# Altium footprint library ZCTX-31main190715.PcbLib: 29 footprints (part 1 of 2)
Each footprint in its own frame and in the unit in brackets; x right, y up, seen from the top. Pads: shape width x height; smd on the part's side, far side on the other; paste and mask are expansions set on the pad; w line width, h text height; cw(c..) or ccw(c..) is an arc to the next point about the centre after c.
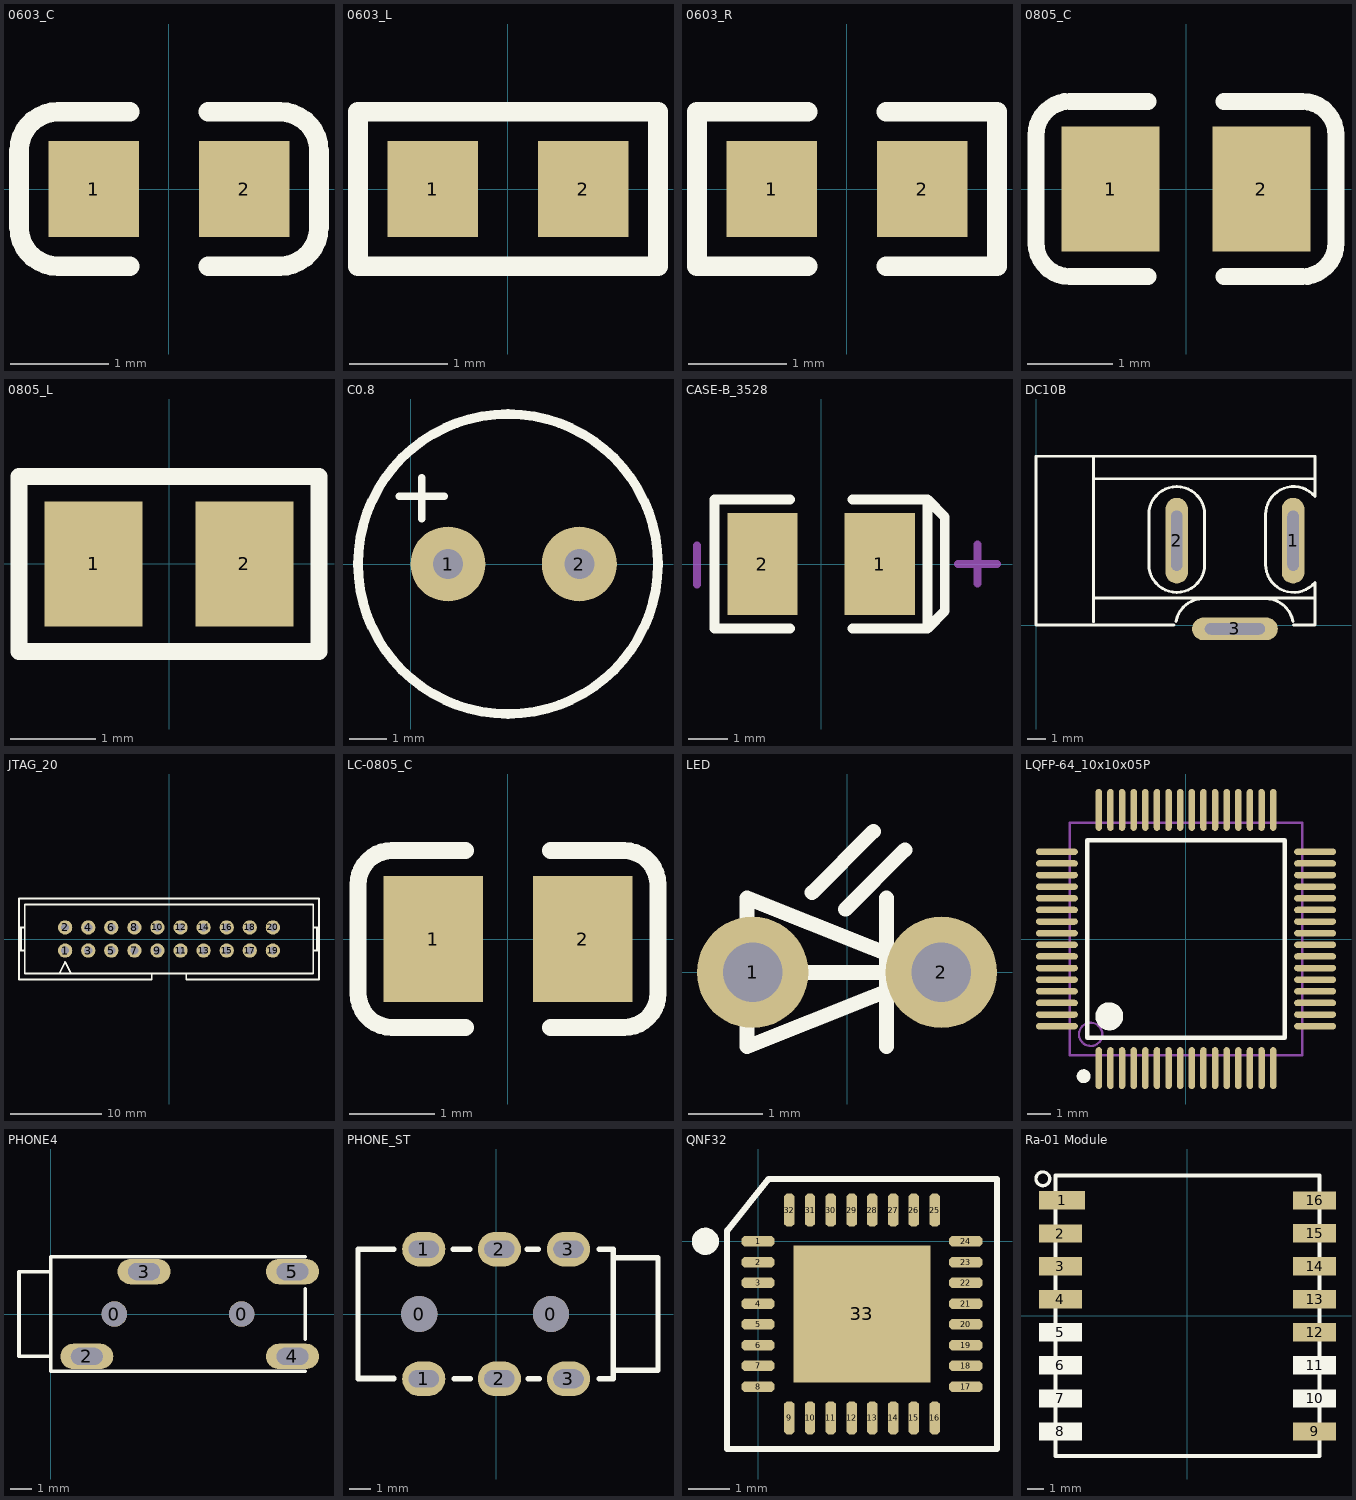
[diagram p0: the footprints below, top view; thin cyan lines are the x and y axes]

## 0603_C [mm]
pads (2):
  rect 0.93x0.98 smd: 1(-0.77,0) 2(0.77,0)
Top Overlay:
  lines w0.2: -0.4,-0.79 -1.135,-0.79 cw(c-1.135,-0.39) -1.535,-0.39 -1.535,0.39 cw(c-1.135,0.39) -1.135,0.79 -0.4,0.79 ; 0.4,-0.79 1.135,-0.79 ccw(c1.135,-0.39) 1.535,-0.39 1.535,0.39 ccw(c1.135,0.39) 1.135,0.79 0.4,0.79
3D body: height 0.3, standoff 0, extent -0.8,-0.4 0.8,0.4

## 0603_L [mm]
pads (2):
  rect 0.93x0.98 smd: 1(-0.77,0) 2(0.77,0)
Top Overlay:
  lines w0.2: -1.535,-0.79 -1.535,0.79 1.535,0.79 1.535,-0.79 -1.535,-0.79
3D body: height 0.46, standoff -0.01, extent -0.824,-0.412 0.824,0.413

## 0603_R [mm]
pads (2):
  rect 0.93x0.98 smd: 1(-0.77,0) 2(0.77,0)
Top Overlay:
  lines w0.2: -0.4,-0.79 -1.535,-0.79 -1.535,0.79 -0.4,0.79 ; 0.4,-0.79 1.535,-0.79 1.535,0.79 0.4,0.79
3D body: height 0.56, standoff 0, extent -0.85,-0.4 0.85,0.4

## 0805_C [mm]
pads (2):
  rect 1.16x1.47 smd: 1(-0.89,0) 2(0.89,0)
Top Overlay:
  lines w0.2: -0.45,-1.035 -1.37,-1.035 cw(c-1.37,-0.635) -1.77,-0.635 -1.77,0.635 cw(c-1.37,0.635) -1.37,1.035 -0.45,1.035 ; 0.45,-1.035 1.37,-1.035 ccw(c1.37,-0.635) 1.77,-0.635 1.77,0.635 ccw(c1.37,0.635) 1.37,1.035 0.45,1.035
3D body: height 0.77, standoff -0.01, extent -1,-0.625 1.001,0.625

## 0805_L [mm]
pads (2):
  rect 1.16x1.47 smd: 1(-0.89,0) 2(0.89,0)
Top Overlay:
  lines w0.2: -1.77,-1.035 -1.77,1.035 1.77,1.035 1.77,-1.035 -1.77,-1.035
3D body: height 0.6, standoff -0.02, extent -0.998,-0.638 1.005,0.637

## C0.8 [mm]
pads (2):
  round 2 hole 0.8: 1(1,0) 2(4.5,0)
Top Overlay:
  circle w0.254: c2.6,0 r4
  lines w0.2: -0.3,1.8 0.9,1.8 ; 0.3,1.2 0.3,2.3

## CASE-B_3528 [mm]
pads (2):
  rect 1.8x2.6 smd: 1(1.5,0) 2(-1.5,0)
Top Overlay:
  lines w0.254: -0.8,-1.65 -2.727,-1.65 -2.727,1.65 -0.8,1.65 ; 0.8,-1.65 2.727,-1.65 ; 0.8,1.65 2.727,1.65 ; 2.727,-1.65 2.727,1.65 ; 2.727,-1.65 3.163,-1.2 3.163,1.2 2.727,1.65
Mechanical 15:
  lines w0.203: -3.175,-0.525 -3.175,0.475 ; 3.5,0 4.5,0 ; 4,-0.5 4,0.5
3D body: height 2.03, standoff 0, extent -1.85,-1.465 1.85,1.465

## DC10B [mm]
pads (3):
  oval 1.2x4.572 hole 0.6 slot 3.2 at 90 deg: 1(13.7,4.5) 2(7.5,4.5)
  oval 4.572x1.2 hole 0.6 slot 3.2 at 0 deg: 3(10.6,-0.2)
Top Overlay:
  lines w0.152: 3.055,0.182 3.055,9 ; 3.055,1.452 14.866,1.452 ; 3.055,7.802 14.742,7.802 14.847,7.802 ; 7.348,0 3.055,0 0,0 0,9 14.866,9 14.862,6.852 ccw(c13.723,5.897) 12.237,5.897 12.236,3.23 ccw(c13.723,3.23) 14.862,2.275 ; 7.458,0.186 cw(c8.922,-0.072) 8.922,1.414 12.224,1.414 cw(c12.224,-0.072) 13.688,0.186 ; 13.723,0 14.866,0 14.866,2.214 ; 8.986,5.897 ccw(c7.5,5.897) 6.014,5.897 6.013,3.23 ccw(c7.5,3.23) 8.986,3.23 8.986,5.897 ; 8.986,5.897 8.987,5.897

## JTAG_20 [mil]
pads (20):
  round 62 hole 35: 1(-450,-50) 2(-450,50) 3(-350,-50) 4(-350,50) 5(-250,-50) 6(-250,50) 7(-150,-50) 8(-150,50) 9(-50,-50) 10(-50,50) 11(50,-50) 12(50,50) 13(150,-50) 14(150,50) 15(250,-50) 16(250,50) 17(350,-50) 18(350,50) 19(450,-50) 20(450,50)
Top Overlay:
  lines w8: -650,-50 -625,-50 ; -650,50 -625,50 ; -641.67,-50 -641.67,50 ; -475,-150 -450,-100 -425,-150 ; -339.57,-175 -75,-175 -75,-150 ; -325,-175 -650,-175 -650,175 650,175 650,-175 325,-175 75,-175 75,-150 ; 625,-50 650,-50 ; 625,50 650,50 ; 641.67,-50 641.67,50 ; -75,-150 -625,-150 -625,150 625,150 625,-150 75,-150 ; -75,-150 75,-150

## LC-0805_C [mm]
pads (2):
  rect 1.16x1.47 smd: 1(-0.875,0) 2(0.875,0)
Top Overlay:
  lines w0.2: -0.5,-1.035 -1.355,-1.035 cw(c-1.355,-0.635) -1.755,-0.635 -1.755,0.635 cw(c-1.355,0.635) -1.355,1.035 -0.5,1.035 ; 0.5,-1.035 1.355,-1.035 ccw(c1.355,-0.635) 1.755,-0.635 1.755,0.635 ccw(c1.355,0.635) 1.355,1.035 0.5,1.035
3D body: height 0.77, standoff -0.01, extent -1,-0.625 1.001,0.625

## LED [mm]
pads (2):
  round 1.5 hole 0.8: 1(-1.27,0) 2(1.27,0)
Top Overlay:
  lines w0.2: -1.878,0 1.713,0 ; -1.345,0 1.23,0 ; -0.47,1.075 0.355,1.9 ; -0.02,0.85 0.78,1.65 ; 0.53,-1 0.53,1 ; 1.713,0 1.205,-0.016 -1.345,1 -1.345,-1 1.205,0.016 1.713,0

## LQFP-64_10x10x05P [mm]
pads (64):
  oval 0.28x1.8 smd mask+0.051: 1(-3.75,-5.55) 2(-3.25,-5.55) 3(-2.75,-5.55) 4(-2.25,-5.55) 5(-1.75,-5.55) 6(-1.25,-5.55) 7(-0.75,-5.55) 8(-0.25,-5.55) 9(0.25,-5.55) 10(0.75,-5.55) 11(1.25,-5.55) 12(1.75,-5.55) 13(2.25,-5.55) 14(2.75,-5.55) 15(3.25,-5.55) 16(3.75,-5.55) 33(3.75,5.55) 34(3.25,5.55) 35(2.75,5.55) 36(2.25,5.55) 37(1.75,5.55) 38(1.25,5.55) 39(0.75,5.55) 40(0.25,5.55) 41(-0.25,5.55) 42(-0.75,5.55) 43(-1.25,5.55) 44(-1.75,5.55) 45(-2.25,5.55) 46(-2.75,5.55) 47(-3.25,5.55) 48(-3.75,5.55)
  oval 1.8x0.28 smd mask+0.051: 17(5.55,-3.75) 18(5.55,-3.25) 19(5.55,-2.75) 20(5.55,-2.25) 21(5.55,-1.75) 22(5.55,-1.25) 23(5.55,-0.75) 24(5.55,-0.25) 25(5.55,0.25) 26(5.55,0.75) 27(5.55,1.25) 28(5.55,1.75) 29(5.55,2.25) 30(5.55,2.75) 31(5.55,3.25) 32(5.55,3.75) 49(-5.55,3.75) 50(-5.55,3.25) 51(-5.55,2.75) 52(-5.55,2.25) 53(-5.55,1.75) 54(-5.55,1.25) 55(-5.55,0.75) 56(-5.55,0.25) 57(-5.55,-0.25) 58(-5.55,-0.75) 59(-5.55,-1.25) 60(-5.55,-1.75) 61(-5.55,-2.25) 62(-5.55,-2.75) 63(-5.55,-3.25) 64(-5.55,-3.75)
Top Overlay:
  circle w0.6: c-3.3,-3.325 r0.3
  circle w0.3: c-4.4,-5.9 r0.15
  lines w0.2: -4.25,-4.25 -4.25,4.25 4.25,4.25 4.25,-4.25 -4.25,-4.25
Mechanical 13:
  circle w0.1: c-4.1,-4.1 r0.5
  lines w0.1: -5,-5 -5,5 5,5 5,-5 -5,-5

## PHONE4 [mm]
pads (6):
  round 1.2 hole 1.2: 0(3,0) 0(9,0)
  oval 2.5x1.2 hole 0.8 slot 1.5 at 0 deg: 2(1.7,-2) 3(4.4,2) 4(11.4,-2) 5(11.4,2)
Top Overlay:
  lines w0.17: 0,-2 -1.5,-2 -1.5,2 0,2 ; 12,-2.7 0,-2.7 0,2.7 12,2.7 ; 12,-1.2 12,1.2

## PHONE_ST [mm]
pads (8):
  round 1.676 hole 1.676: 0(-3.556,0) 0(2.54,0)
  oval 2x1.6 hole 0.8 slot 1.4 at 0 deg: 1(-3.35,-3) 1(-3.35,3) 2(0.15,-3) 2(0.15,3) 3(3.35,3)
  oval 2x1.6 hole 0.87 slot 1.4 at 0 deg: 3(3.35,-3)
Top Overlay:
  lines w0.254: -6.393,-2.969 -4.742,-2.969 ; -4.742,-3.007 -6.393,-3.007 -6.393,3 -4.742,3 ; -1.986,3 -1.224,3 ; -1.948,-3.007 -1.186,-3.007 ; 1.443,3 1.951,3 ; 1.481,-3.007 1.989,-3.007 ; 4.783,-3.007 5.33,-3.007 ; 4.783,3 5.418,3 5.418,-3.007 ; 5.418,-2.6 7.493,-2.6 7.493,2.6 5.418,2.6

## QNF32 [mm]
pads (33):
  oct 0.8x0.25 smd: 1(0,0) 2(0,-0.5) 3(0,-1) 4(0,-1.5) 5(0,-2) 6(0,-2.5) 7(0,-3) 8(0,-3.5) 17(5,-3.5) 18(5,-3) 19(5,-2.5) 20(5,-2) 21(5,-1.5) 22(5,-1) 23(5,-0.5) 24(5,0)
  oct 0.25x0.8 smd: 9(0.75,-4.25) 10(1.25,-4.25) 11(1.75,-4.25) 12(2.25,-4.25) 13(2.75,-4.25) 14(3.25,-4.25) 15(3.75,-4.25) 16(4.25,-4.25) 25(4.25,0.75) 26(3.75,0.75) 27(3.25,0.75) 28(2.75,0.75) 29(2.25,0.75) 30(1.75,0.75) 31(1.25,0.75) 32(0.75,0.75)
  rect 3.3x3.3 smd: 33(2.5,-1.75)
Top Overlay:
  circle w0.254: c-1.27,0 r0.2
  circle w0.254: c-1.27,0 r0.1
  lines w0.152: -0.75,-5 -0.75,0.25 0.25,1.5 5.75,1.5 5.75,-5 -0.75,-5

## Ra-01 Module [mm]
pads (16):
  rect 2.8x1.1 smd: 1(-7.6,7.002)
  rect 2.6x1.1 smd: 2(-7.7,4.99) 3(-7.7,3.002) 4(-7.7,1.002) 9(7.7,-6.998) 12(7.7,-0.998) 13(7.7,1.002) 14(7.7,3.002) 15(7.7,5.002) 16(7.7,6.996)
  rect 2.6x1.1 on Top Overlay: 5(-7.7,-0.998) 6(-7.7,-2.998) 7(-7.7,-4.998) 8(-7.7,-6.998) 10(7.7,-4.998) 11(7.7,-2.998)
Top Overlay:
  circle w0.2: c-8.763,8.306 r0.417
  lines w0.254: -8,-8.498 8,-8.498 8,8.502 -8,8.502 -8,-8.498